# Altium schematic symbol library PCM12SMTR.SchLib: 1 symbol
Pins are listed as number, name and electrical type; pins without a type are passive.

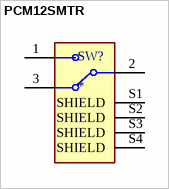
[diagram p0: symbol PCM12SMTR]

## PCM12SMTR
designator SW?
Slide Switch SPDT Surface Mount, Right Angle; MF: C&K; MP: PCM12SMTR; Price: None; Package: None; Purchase-URL: https://pricing.snapeda.com/search/part/PCM12SMTR/?ref=eda; Availability: In Stock; SnapEDA_Link: https://www.snapeda.com/parts/PCM12SMTR/C%2526K/view-part/?ref=snap; Value: *; Check_prices: https://www.snapeda.com/parts/PCM12SMTR/C%2526K/view-part/?ref=eda
footprint SW_PCM12SMTR
pins: 1, 2, 3, S1 SHIELD, S2 SHIELD, S3 SHIELD, S4 SHIELD